# Altium footprint library UCD1V471MNL6GS.PcbLib: 3 footprints
Each footprint in its own frame and in the unit in brackets; x right, y up, seen from the top. Pads: shape width x height; smd on the part's side, far side on the other; paste and mask are expansions set on the pad; w line width, h text height; cw(c..) or ccw(c..) is an arc to the next point about the centre after c.
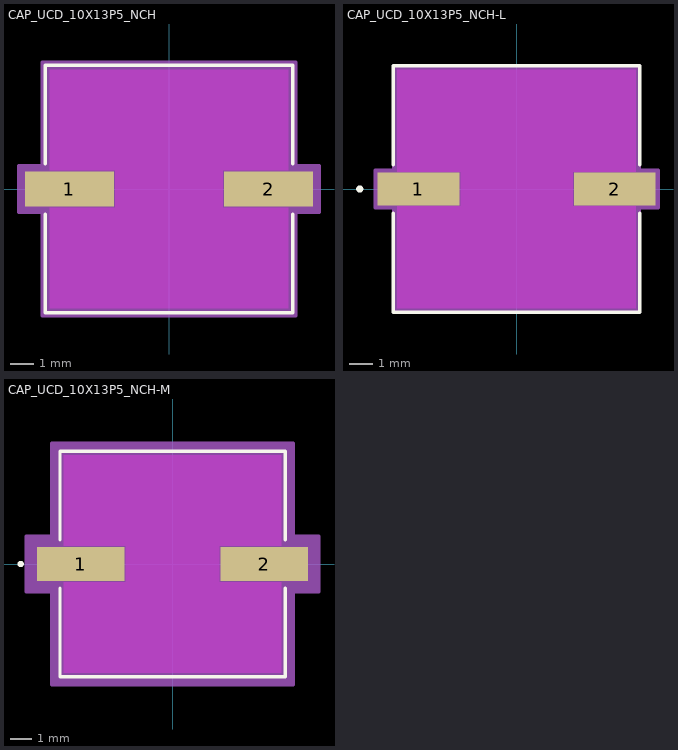
[diagram p0: the footprints below, top view; thin cyan lines are the x and y axes]

## CAP_UCD_10X13P5_NCH [mil]
pads (2):
  rect 150x59 smd paste+0 mask+0: 1(-167.5,0) 2(167.5,0)
Top Layer keep-out:
  region: -90.5,-31.5 -90.5,31.5 90.5,31.5 90.5,-31.5
  region: -201,31.5 -201,201 201,201 201,31.5
  region: -201,-201 -201,-31.5 201,-31.5 201,-201
Top Overlay:
  lines w6: -208,-42.6 -208,-208 208,-208 208,-42.6 ; -208,42.6 -208,208 208,208 208,42.6
  text ".Designator" at -137.5,-25 h50
Keep-Out Layer:
  region: -90.5,-31.5 -90.5,31.5 90.5,31.5 90.5,-31.5
Mechanical 13:
  circle w1: c-183,0 r0
  lines w1: -203,-101.5 -101.5,-203 ; -203,101.5 -101.5,203 ; -203,-203 203,-203 203,203 -203,203 -203,-203
  text ".Designator" at -137.5,-25 h50
Mechanical 15:
  region: -213,-39.5 -252.5,-39.5 -252.5,39.5 -213,39.5 -213,213 213,213 213,39.5 252.5,39.5 252.5,-39.5 213,-39.5 213,-213 -213,-213
  lines w6: -252.5,-39.5 -252.5,39.5 -213,39.5 -213,213 213,213 213,39.5 252.5,39.5 252.5,-39.5 213,-39.5 213,-213 -213,-213 -213,-39.5 -252.5,-39.5
3D body "CAP_UCD_10X13P5_NCH.step": height 553.11, standoff 0, extent -222.48,-202.99 222.48,202.99

## CAP_UCD_10X13P5_NCH-L [mil]
pads (2):
  rect 138x55 smd paste+0 mask+0: 1(-165.5,0) 2(165.5,0)
Top Layer keep-out:
  region: -94.5,-29.5 -94.5,29.5 94.5,29.5 94.5,-29.5
  region: -201,29.5 -201,201 201,201 201,29.5
  region: -201,-201 -201,-29.5 201,-29.5 201,-201
Top Overlay:
  circle w6: c-264.5,0 r3
  lines w6: -208,-40.6 -208,-208 208,-208 208,-40.6 ; -208,40.6 -208,208 208,208 208,40.6
  text ".Designator" at -137.5,-25 h50
Keep-Out Layer:
  region: -94.5,-29.5 -94.5,29.5 94.5,29.5 94.5,-29.5
Mechanical 13:
  circle w1: c-183,0 r3
  lines w1: -203,-101.5 -101.5,-203 ; -203,101.5 -101.5,203 ; -203,-203 203,-203 203,203 -203,203 -203,-203
  text ".Designator" at -137.5,-25 h50
Mechanical 15:
  region: -207,-31.5 -238.5,-31.5 -238.5,31.5 -207,31.5 -207,207 207,207 207,31.5 238.5,31.5 238.5,-31.5 207,-31.5 207,-207 -207,-207
  lines w6: -238.5,-31.5 -238.5,31.5 -207,31.5 -207,207 207,207 207,31.5 238.5,31.5 238.5,-31.5 207,-31.5 207,-207 -207,-207 -207,-31.5 -238.5,-31.5
3D body "CAP_UCD_10X13P5_NCH.step": height 553.11, standoff 0, extent -222.48,-202.99 222.48,202.99

## CAP_UCD_10X13P5_NCH-M [mil]
pads (2):
  rect 162x63 smd paste+0 mask+0: 1(-169.5,0) 2(169.5,0)
Top Layer keep-out:
  region: -86.5,-33.5 -86.5,33.5 86.5,33.5 86.5,-33.5
  region: -201,33.5 -201,201 201,201 201,33.5
  region: -201,-201 -201,-33.5 201,-33.5 201,-201
Top Overlay:
  circle w6: c-280.5,0 r3
  lines w6: -208,-44.6 -208,-208 208,-208 208,-44.6 ; -208,44.6 -208,208 208,208 208,44.6
  text ".Designator" at -137.5,-25 h50
Keep-Out Layer:
  region: -86.5,-33.5 -86.5,33.5 86.5,33.5 86.5,-33.5
Mechanical 13:
  circle w1: c-183,0 r3
  lines w1: -203,-101.5 -101.5,-203 ; -203,101.5 -101.5,203 ; -203,-203 203,-203 203,203 -203,203 -203,-203
  text ".Designator" at -137.5,-25 h50
Mechanical 15:
  region: -223,-51.5 -270.5,-51.5 -270.5,51.5 -223,51.5 -223,223 223,223 223,51.5 270.5,51.5 270.5,-51.5 223,-51.5 223,-223 -223,-223
  lines w6: -270.5,-51.5 -270.5,51.5 -223,51.5 -223,223 223,223 223,51.5 270.5,51.5 270.5,-51.5 223,-51.5 223,-223 -223,-223 -223,-51.5 -270.5,-51.5
3D body "CAP_UCD_10X13P5_NCH.step": height 553.11, standoff 0, extent -222.48,-202.99 222.48,202.99